# Altium schematic symbol library Transistor.SchLib: 1 symbol
Pins are listed as number, name and electrical type; pins without a type are passive.

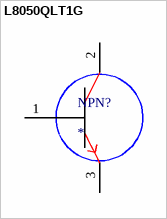
[diagram p0: symbol L8050QLT1G]

## L8050QLT1G
designator NPN?
footprint SOT-23
pins: 1, 2, 3